# EAGLE library part MAX756 (library BatNodeParts)
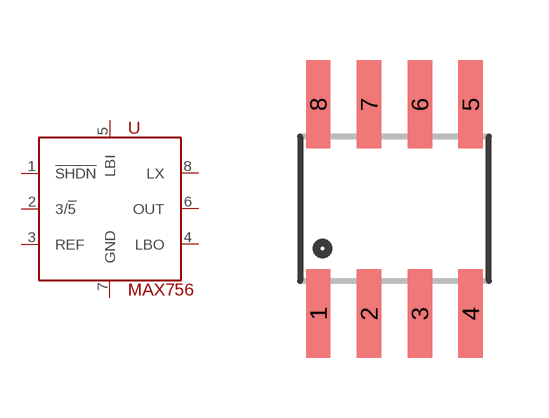
[diagram p0: symbol with the pads of SO08; footprint SO08]

Designator prefix U

## MAX756  [SO08]
1  !SHDN
2  3/!5
3  REF
4  LBO
5  LBI
6  OUT
7  GND  pwr
8  LX

## Footprint SO08 (pad centres in mm)
Small Outline Package Fits JEDEC packages (narrow SOIC-8)
smd 0.61 x 2.21: 1 -1.905,-2.616; 2 -0.635,-2.616; 3 0.635,-2.616; 4 1.905,-2.616; 5 1.905,2.616; 6 0.635,2.616; 7 -0.635,2.616; 8 -1.905,2.616